# Altium footprint library ZMPT101B.PcbLib: 1 footprints
Each footprint in its own frame and in the unit in brackets; x right, y up, seen from the top. Pads: shape width x height; smd on the part's side, far side on the other; paste and mask are expansions set on the pad; w line width, h text height; cw(c..) or ccw(c..) is an arc to the next point about the centre after c.
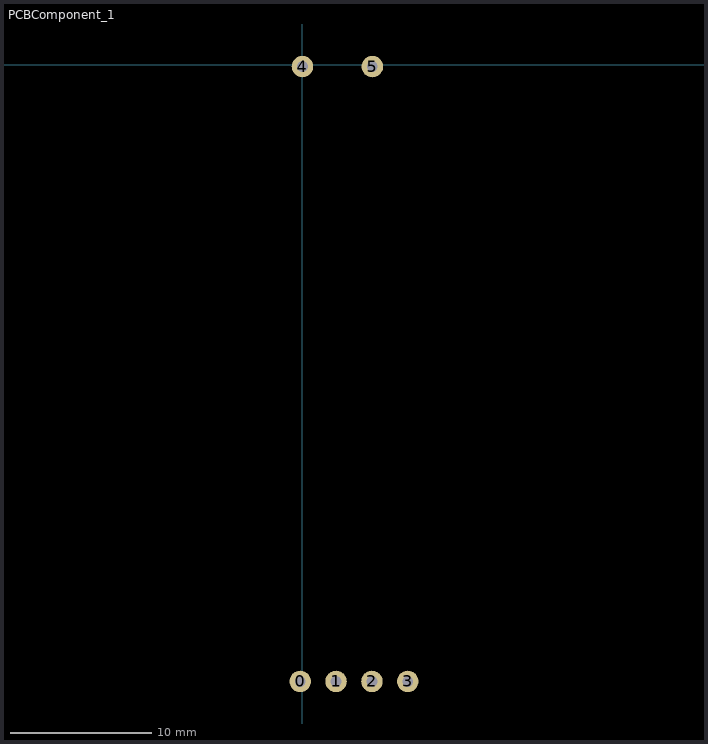
[diagram p0: the footprint, top view; thin cyan lines are the x and y axes]

## PCBComponent_1 [mil]
pads (6):
  round 60 hole 30: 0(-5,-1720) 1(95,-1720) 2(195,-1720) 3(295,-1720) 4(1.24,-5) 5(196.24,-5)
3D body "VTsensor(ZMPT101B) v4.step": height 811.02, standoff -209.01, extent -283.86,-1775 483.86,173.82